# Altium footprint library 3U16AD_PCB_1214D_Allegro.PcbLib: 54 footprints (part 3 of 4)
Each footprint in its own frame and in the unit in brackets; x right, y up, seen from the top. Pads: shape width x height; smd on the part's side, far side on the other; paste and mask are expansions set on the pad; w line width, h text height; cw(c..) or ccw(c..) is an arc to the next point about the centre after c.
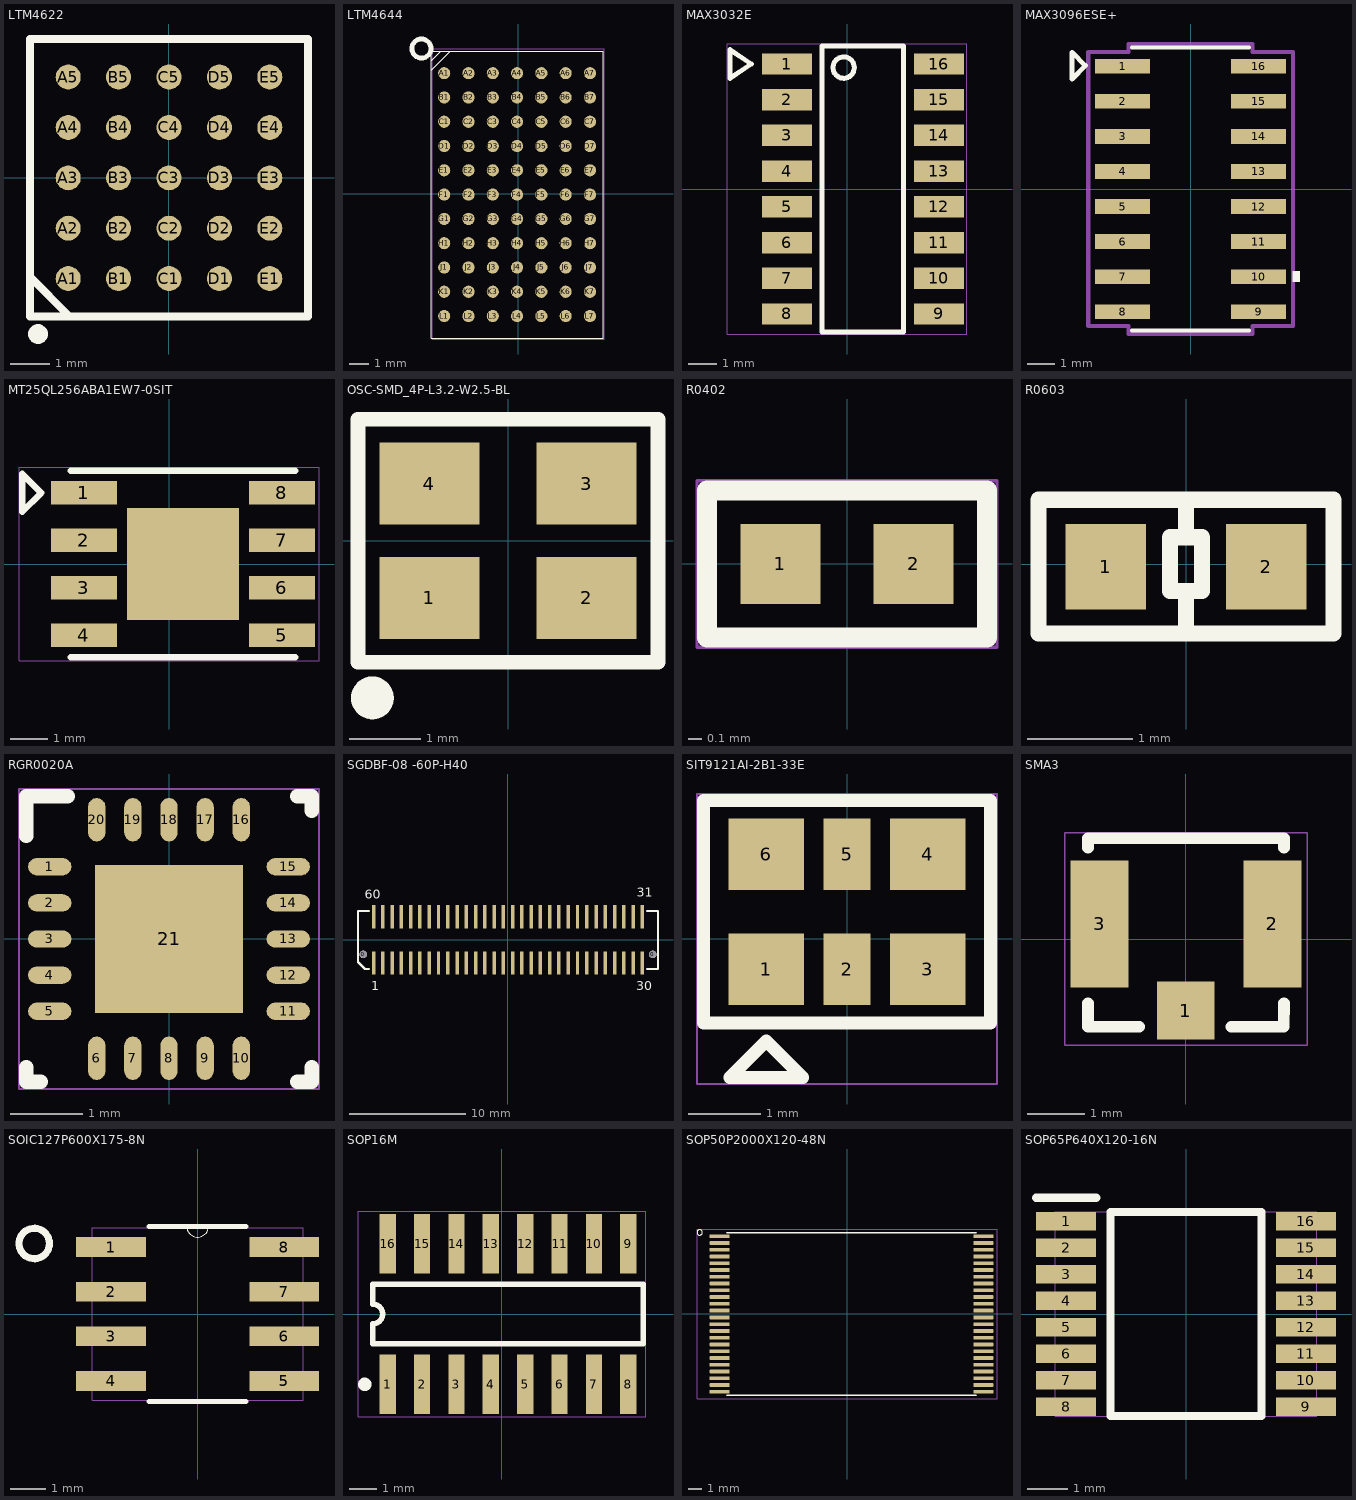
[diagram p2: the footprints below, top view; thin cyan lines are the x and y axes]

## LTM4622 [mm] "LTM4622"
pads (25):
  round 0.63 smd: A1(-2.54,-2.54) A2(-2.54,-1.27) A3(-2.54,0) A4(-2.54,1.27) A5(-2.54,2.54) B1(-1.27,-2.54) B2(-1.27,-1.27) B3(-1.27,0) B4(-1.27,1.27) B5(-1.27,2.54) C1(0,-2.54) C2(0,-1.27) C3(0,0) C4(0,1.27) C5(0,2.54) D1(1.27,-2.54) D2(1.27,-1.27) D3(1.27,0) D4(1.27,1.27) D5(1.27,2.54) E1(2.54,-2.54) E2(2.54,-1.27) E3(2.54,0) E4(2.54,1.27) E5(2.54,2.54)
Top Overlay:
  circle w0.25: c-3.302,-3.937 r0.125
  lines w0.2: -3.5,-2.5 -2.5,-3.5 ; -3.5,-3.5 -3.5,3.5 3.5,3.5 3.5,-3.5 -3.5,-3.5
Mechanical 7:
  lines w0.025: -3.5,-3.5 -3.5,3.5 3.5,3.5 3.5,-3.5 -3.5,-3.5
Mechanical 16:
  text ".Designator" at 0,0 h0.76

## LTM4644 [mm] "LTM4644"
pads (77):
  round 0.635 smd: A1(-3.862,6.312) A2(-2.592,6.312) A3(-1.322,6.312) A4(-0.052,6.312) A5(1.218,6.312) A6(2.488,6.312) A7(3.758,6.312) B1(-3.862,5.042) B2(-2.592,5.042) B3(-1.322,5.042) B4(-0.052,5.042) B5(1.218,5.042) B6(2.488,5.042) B7(3.758,5.042) C1(-3.862,3.772) C2(-2.592,3.772) C3(-1.322,3.772) C4(-0.052,3.772) C5(1.218,3.772) C6(2.488,3.772) C7(3.758,3.772) D1(-3.862,2.502) D2(-2.592,2.502) D3(-1.322,2.502) D4(-0.052,2.502) D5(1.218,2.502) D6(2.488,2.502) D7(3.758,2.502) E1(-3.862,1.232) E2(-2.592,1.232) E3(-1.322,1.232) E4(-0.052,1.232) E5(1.218,1.232) E6(2.488,1.232) E7(3.758,1.232) F1(-3.862,-0.038) F2(-2.592,-0.038) F3(-1.322,-0.038) F4(-0.052,-0.038) F5(1.218,-0.038) F6(2.488,-0.038) F7(3.758,-0.038) G1(-3.862,-1.308) G2(-2.592,-1.308) G3(-1.322,-1.308) G4(-0.052,-1.308) G5(1.218,-1.308) G6(2.488,-1.308) G7(3.758,-1.308) H1(-3.862,-2.578) H2(-2.592,-2.578) H3(-1.322,-2.578) H4(-0.052,-2.578) H5(1.218,-2.578) H6(2.488,-2.578) H7(3.758,-2.578) J1(-3.862,-3.848) J2(-2.592,-3.848) J3(-1.322,-3.848) J4(-0.052,-3.848) J5(1.218,-3.848) J6(2.488,-3.848) J7(3.758,-3.848) K1(-3.862,-5.118) K2(-2.592,-5.118) K3(-1.322,-5.118) K4(-0.052,-5.118) K5(1.218,-5.118) K6(2.488,-5.118) K7(3.758,-5.118) L1(-3.862,-6.388) L2(-2.592,-6.388) L3(-1.322,-6.388) L4(-0.052,-6.388) L5(1.218,-6.388) L6(2.488,-6.388) L7(3.758,-6.388)
Top Overlay:
  lines w0.05: -4.052,7.463 -4.552,6.962 -4.552,6.463 ; -4.552,6.463 -3.552,7.463 -4.552,6.463 ; -4.552,-7.538 4.448,-7.538 4.448,7.463 -4.552,7.463 -4.552,-7.538
  lines w0.25: -5.552,7.597 cw(c-5.052,7.597) -5.052,8.098 cw(c-5.052,7.598) -4.552,7.597 cw(c-5.052,7.597) -5.052,7.098 cw(c-5.052,7.598) -5.552,7.597
  text ".Designator" at -2.948,9.894 h0.76
Mechanical 7:
  lines w0.025: -4.497,-7.587 -4.497,7.587 4.498,7.587 4.498,-7.587 -4.497,-7.587

## MAX3032E [mil] "MAX3032E"
pads (16):
  rect 70x30 smd: 1(-84.05,175) 2(-84.05,125) 3(-84.05,75) 4(-84.05,25) 5(-84.05,-25) 6(-84.05,-75) 7(-84.05,-125) 8(-84.05,-175) 9(128.55,-175) 10(128.55,-125) 11(128.55,-75) 12(128.55,-25) 13(128.55,25) 14(128.55,75) 15(128.55,125) 16(128.55,175)
Top Overlay:
  circle w7: c-4.72,170 r15
  lines w7: -164.05,155 -134.05,175 -164.05,195 -164.05,155 ; -35.05,-200 78.8,-200 78.8,200 -35.05,200 -35.05,-200
  text ".Designator" at -174.75,79 h30
Mechanical 7:
  lines w1: -167.55,-203.5 167.55,-203.5 167.55,203.5 -167.55,203.5 -167.55,-203.5

## MAX3096ESE+ [mil]
pads (16):
  rect 78x21 smd: 1(-97,175) 2(-97,125) 3(-97,75) 4(-97,25) 5(-97,-25) 6(-97,-75) 7(-97,-125) 8(-97,-175) 9(97,-175) 10(97,-125) 11(97,-75) 12(97,-25) 13(97,25) 14(97,75) 15(97,125) 16(97,175)
Top Overlay:
  region: 146,-117.5 156,-117.5 156,-132.5 146,-132.5
  lines w6: -83.5,-202 83.5,-202 ; -83.5,202 83.5,202
  lines w7: -169,157 -169,195 -150,176 -169,157
Mechanical 15:
  lines w6: -146,-195.5 -146,195.5 -88.5,195.5 -88.5,207 88.5,207 88.5,195.5 146,195.5 146,-195.5 88.5,-195.5 88.5,-207 -88.5,-207 -88.5,-195.5 -146,-195.5

## MT25QL256ABA1EW7-0SIT [mil] "MT25QL256ABA1EW7-0SIT"
pads (9):
  rect 70x25 smd: 1(-89.58,75) 2(-89.58,25) 3(-89.58,-25) 4(-89.58,-75) 5(119.08,-75) 6(119.08,-25) 7(119.08,25) 8(119.08,75)
  rect 118.11x118.11 smd: ""(14.75,0)
Top Overlay:
  lines w7: -103.36,-98.42 132.86,-98.42 ; -103.36,98.43 132.86,98.43 ; -154.58,55 -134.58,75 -154.58,95 -154.58,55
Mechanical 7:
  lines w1: -158.08,-101.92 158.08,-101.92 158.08,101.93 -158.08,101.93 -158.08,-101.92
Mechanical 16:
  text ".Designator" at 14.75,0 h30

## OSC-SMD_4P-L3.2-W2.5-BL [mm]
pads (4):
  rect 1.4x1.15 smd: 1(-1.1,-0.8) 2(1.1,-0.8) 3(1.1,0.8) 4(-1.1,0.8)
Top Overlay:
  lines w0.203: -2.1,-1.7 2.1,-1.7 2.1,1.7 -2.1,1.7 -2.1,-1.7
  lines w0.3: -1.9,-2.05 ccw(c-1.899,-2.2) -1.897,-2.05

## R0402 [mm] "R0402"
pads (2):
  rect 0.6x0.6 smd: 1(-0.5,0) 2(0.5,0)
Top Overlay:
  lines w0.15: -1.05,-0.55 -1.05,0.55 1.05,0.55 1.05,-0.55 -1.05,-0.55
  text ".Designator" at 2.667,-0.597 h0.76
Mechanical 7:
  lines w0.025: -1.125,-0.625 -1.125,0.625 1.125,0.625 1.125,-0.625 -1.125,-0.625

## R0603 [mil] "R0603"
pads (2):
  rect 30x32 smd: 1(-30,-1) 2(30,-1)
Top Overlay:
  lines w6: 0,-26 0,-11 ; 0,23 0,10 ; 0,10 6,10 6,-10 -6,-10 -6,10 0,10 ; -55,-26 -55,24 55,24 55,-26 -55,-26
Mechanical 7:
  lines w1: -56,-26 -56,26 56,26 56,-26 -56,-26
Mechanical 16:
  text ".Designator" at 0,-1 h30

## RGR0020A [mm] "RGR0020A"
pads (21):
  oval 0.6x0.24 smd: 1(-1.65,1) 2(-1.65,0.5) 3(-1.65,0) 4(-1.65,-0.5) 5(-1.65,-1) 11(1.65,-1) 12(1.65,-0.5) 13(1.65,0) 14(1.65,0.5) 15(1.65,1)
  oval 0.24x0.6 smd: 6(-1,-1.65) 7(-0.5,-1.65) 8(0,-1.65) 9(0.5,-1.65) 10(1,-1.65) 16(1,1.65) 17(0.5,1.65) 18(0,1.65) 19(-0.5,1.65) 20(-1,1.65)
  rect 2.05x2.05 smd: 21(0,0)
Top Overlay:
  lines w0.2: -1.975,-1.775 -1.975,-1.975 -1.775,-1.975 ; -1.975,1.425 -1.975,1.975 -1.4,1.975 ; 1.775,-1.975 1.975,-1.975 1.975,-1.775 ; 1.775,1.975 1.975,1.975 1.975,1.775
Mechanical 7:
  lines w0.025: -2.075,-2.075 -2.075,2.075 2.075,2.075 2.075,-2.075 -2.075,-2.075
Mechanical 16:
  text ".Designator" at 0,0 h0.76

## SGDBF-08 -60P-H40 [mm]
pads (62):
  oval 0.654x0.65 hole 0.65: 0(-12.5,-1.25) 0(12.5,-1.25)
  rect 0.3x2 smd: 1(-11.6,-2) 2(-10.8,-2) 3(-10,-2) 4(-9.2,-2) 5(-8.4,-2) 6(-7.6,-2) 7(-6.8,-2) 8(-6,-2) 9(-5.2,-2) 10(-4.4,-2) 11(-3.6,-2) 12(-2.8,-2) 13(-2,-2) 14(-1.2,-2) 15(-0.4,-2) 16(0.4,-2) 17(1.2,-2) 18(2,-2) 19(2.8,-2) 20(3.6,-2) 21(4.4,-2) 22(5.2,-2) 23(6,-2) 24(6.8,-2) 25(7.6,-2) 26(8.4,-2) 27(9.2,-2) 28(10,-2) 29(10.8,-2) 30(11.6,-2) 31(11.6,2) 32(10.8,2) 33(10,2) 34(9.2,2) 35(8.4,2) 36(7.6,2) 37(6.8,2) 38(6,2) 39(5.2,2) 40(4.4,2) 41(3.6,2) 42(2.8,2) 43(2,2) 44(1.2,2) 45(0.4,2) 46(-0.4,2) 47(-1.2,2) 48(-2,2) 49(-2.8,2) 50(-3.6,2) 51(-4.4,2) 52(-5.2,2) 53(-6,2) 54(-6.8,2) 55(-7.6,2) 56(-8.4,2) 57(-9.2,2) 58(-10,2) 59(-10.8,2) 60(-11.6,2)
Top Overlay:
  lines w0.203: -12.036,-2.5 -12.348,-2.5 -12.95,-1.898 -12.95,2.5 -12.036,2.5 ; 12.036,-2.5 12.95,-2.5 12.95,2.5 12.036,2.5
  text "31" at 11.121,3.723 h0.8
  text "30" at 11.07,-4.329 h0.8
  text "1" at -11.815,-4.354 h0.8
  text "60" at -12.374,3.571 h0.8

## SIT9121AI-2B1-33E [mm] "SIT9121AI-2B1-33E"
pads (6):
  rect 1.05x1 smd: 1(-1.125,-0.421) 3(1.125,-0.421) 4(1.125,1.179) 6(-1.125,1.179)
  rect 0.65x1 smd: 2(0,-0.421) 5(0,1.179)
Top Overlay:
  lines w0.178: -2,-1.171 -2,1.929 2,1.929 2,-1.171 -2,-1.171 ; -1.633,-1.929 -1.125,-1.421 -0.617,-1.929 -1.633,-1.929
Mechanical 7:
  lines w0.025: -2.089,-2.018 -2.089,2.018 2.089,2.018 2.089,-2.018 -2.089,-2.018
Mechanical 16:
  text ".Designator" at -1.125,-0.421 h0.76

## SMA3 [mm] "SMA3"
pads (3):
  rect 1x1 smd: 1(-0.005,-1.239)
  rect 1x2.2 smd: 2(1.495,0.261) 3(-1.495,0.261)
Top Overlay:
  lines w0.2: -1.695,-1.111 -1.695,-1.519 -0.805,-1.519 ; -1.695,1.582 -1.695,1.741 1.695,1.741 1.695,1.581 ; 0.785,-1.519 1.695,-1.519 1.695,-1.111
Mechanical 7:
  lines w0.025: -2.097,-1.841 2.097,-1.841 2.097,1.841 -2.097,1.841 -2.097,-1.841
Mechanical 16:
  text ".Designator" at -0.005,0.261 h0.76

## SOIC127P600X175-8N [mil] "SOIC127P600X175-8N"
pads (8):
  rect 78x22 smd: 1(-97,75) 2(-97,25) 3(-97,-25) 4(-97,-75) 5(97,-75) 6(97,-25) 7(97,25) 8(97,75)
Top Overlay:
  circle w7.99: c-183,79 r17.09
  lines w1: -12,98 ccw(c0,98) 12,98
  lines w6: -54,-98 54,-98 ; -54,98 -12,98 12,98 54,98
Mechanical 7:
  lines w1: -118.11,-96.45 -118.11,96.46 118.11,96.46 118.11,-96.45 -118.11,-96.45
Mechanical 16:
  text ".Designator" at 0,0 h30

## SOP16M [mm] "SOP16M"
pads (16):
  rect 0.6x2.2 smd: 1(-4.222,-2.6) 2(-2.952,-2.6) 3(-1.682,-2.6) 4(-0.412,-2.6) 5(0.858,-2.6) 6(2.128,-2.6) 7(3.398,-2.6) 8(4.668,-2.6) 9(4.668,2.6) 10(3.398,2.6) 11(2.128,2.6) 12(0.858,2.6) 13(-0.412,2.6) 14(-1.682,2.6) 15(-2.952,2.6) 16(-4.222,2.6)
Top Overlay:
  circle w0.25: c-5.073,-2.6 r0.125
  lines w0.2: -4.777,-1.1 5.222,-1.1 5.222,1.1 -4.777,1.1 -4.777,0.367 cw(c-4.777,0) -4.777,-0.367 -4.777,-1.1
  text ".Designator" at -6.153,-0.61 h0.76
Mechanical 7:
  lines w0.025: -5.323,-3.802 -5.323,3.802 5.323,3.802 5.323,-3.802 -5.323,-3.802

## SOP50P2000X120-48N [mil] "SOP50P2000X120-48N"
pads (48):
  rrect25% 58.28x11.02 smd: 1(-370.38,226.37) 2(-370.38,206.69) 3(-370.38,187) 4(-370.38,167.32) 5(-370.38,147.63) 6(-370.38,127.95) 7(-370.38,108.26) 8(-370.38,88.58) 9(-370.38,68.89) 10(-370.38,49.21) 11(-370.38,29.52) 12(-370.38,9.84) 13(-370.38,-9.85) 14(-370.38,-29.53) 15(-370.38,-49.22) 16(-370.38,-68.9) 17(-370.38,-88.59) 18(-370.38,-108.27) 19(-370.38,-127.96) 20(-370.38,-147.64) 21(-370.38,-167.33) 22(-370.38,-187.01) 23(-370.38,-206.7) 24(-370.38,-226.38) 25(396.55,-226.38) 26(396.55,-206.7) 27(396.55,-187.01) 28(396.55,-167.33) 29(396.55,-147.64) 30(396.55,-127.96) 31(396.55,-108.27) 32(396.55,-88.59) 33(396.55,-68.9) 34(396.55,-49.22) 35(396.55,-29.53) 36(396.55,-9.85) 37(396.55,9.84) 38(396.55,29.52) 39(396.55,49.21) 40(396.55,68.89) 41(396.55,88.58) 42(396.55,108.26) 43(396.55,127.95) 44(396.55,147.63) 45(396.55,167.32) 46(396.55,187) 47(396.55,206.69) 48(396.55,226.37)
Top Overlay:
  circle w1: c-428.65,237.4 r7.87
  lines w5: -349.12,-236.22 375.29,-236.22 ; -349.12,236.22 375.29,236.22
Mechanical 7:
  lines w1: -436.52,-247.06 -436.52,247.05 436.51,247.05 436.51,-247.06 -436.52,-247.06
Mechanical 16:
  text ".Designator" at 13.08,0 h30

## SOP65P640X120-16N [mm] "SOP65P640X120-16N"
pads (16):
  rect 1.475x0.45 smd: 1(-2.938,2.275) 2(-2.938,1.625) 3(-2.938,0.975) 4(-2.938,0.325) 5(-2.938,-0.325) 6(-2.938,-0.975) 7(-2.938,-1.625) 8(-2.938,-2.275) 9(2.938,-2.275) 10(2.938,-1.625) 11(2.938,-0.975) 12(2.938,-0.325) 13(2.938,0.325) 14(2.938,0.975) 15(2.938,1.625) 16(2.938,2.275)
Top Overlay:
  lines w0.2: -3.675,2.85 -2.2,2.85 ; -1.85,-2.5 -1.85,2.5 1.85,2.5 1.85,-2.5 -1.85,-2.5
Mechanical 7:
  lines w0.025: -3.2,-2.5 -3.2,2.5 3.2,2.5 3.2,-2.5 -3.2,-2.5
Mechanical 16:
  text ".Designator" at 0,0 h0.76